# EAGLE library part TPS7250 (library LEMS)
5 V Low Dropout Voltage Regulator by TI
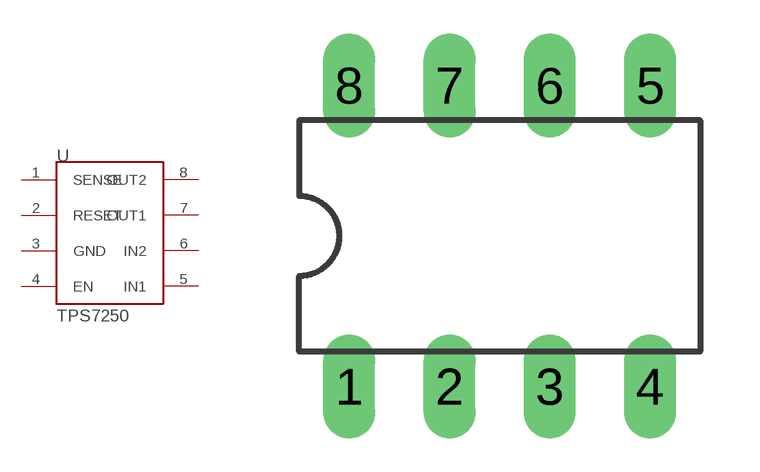
[diagram p9: symbol with the pads of DIL8; footprint DIL8]

Designator prefix -

## TPS7250D  [DIL8]
1  SENSE
2  RESET
3  GND  pwr
4  EN  in
5  IN1  pwr
6  IN2  pwr
7  OUT1  out
8  OUT2  out

## Footprint DIL8 (pad centres in mm)
8-Pin Dual Inline Package
drill 0.813 long: 1 -3.81,-3.81; 2 -1.27,-3.81; 3 1.27,-3.81; 4 3.81,-3.81; 5 3.81,3.81; 6 1.27,3.81; 7 -1.27,3.81; 8 -3.81,3.81